# Altium integrated library NPMOS.IntLib: 1 symbol
Pins are listed as number, name and electrical type; pins without a type are passive.

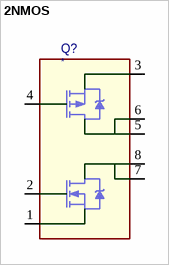
[diagram p0: symbol 2NMOS]

## 2NMOS
designator Q?
BUY_LINK: *; ID: *; PDF: *
footprint SO8
pins: 1 S, 2 G, 3 D, 4 G, 5 S, 6 D, 7 D, 8 D